# Altium schematic symbol library ARCOM_Modules.SchLib: 8 symbols
Pins are listed as number, name and electrical type; pins without a type are passive.

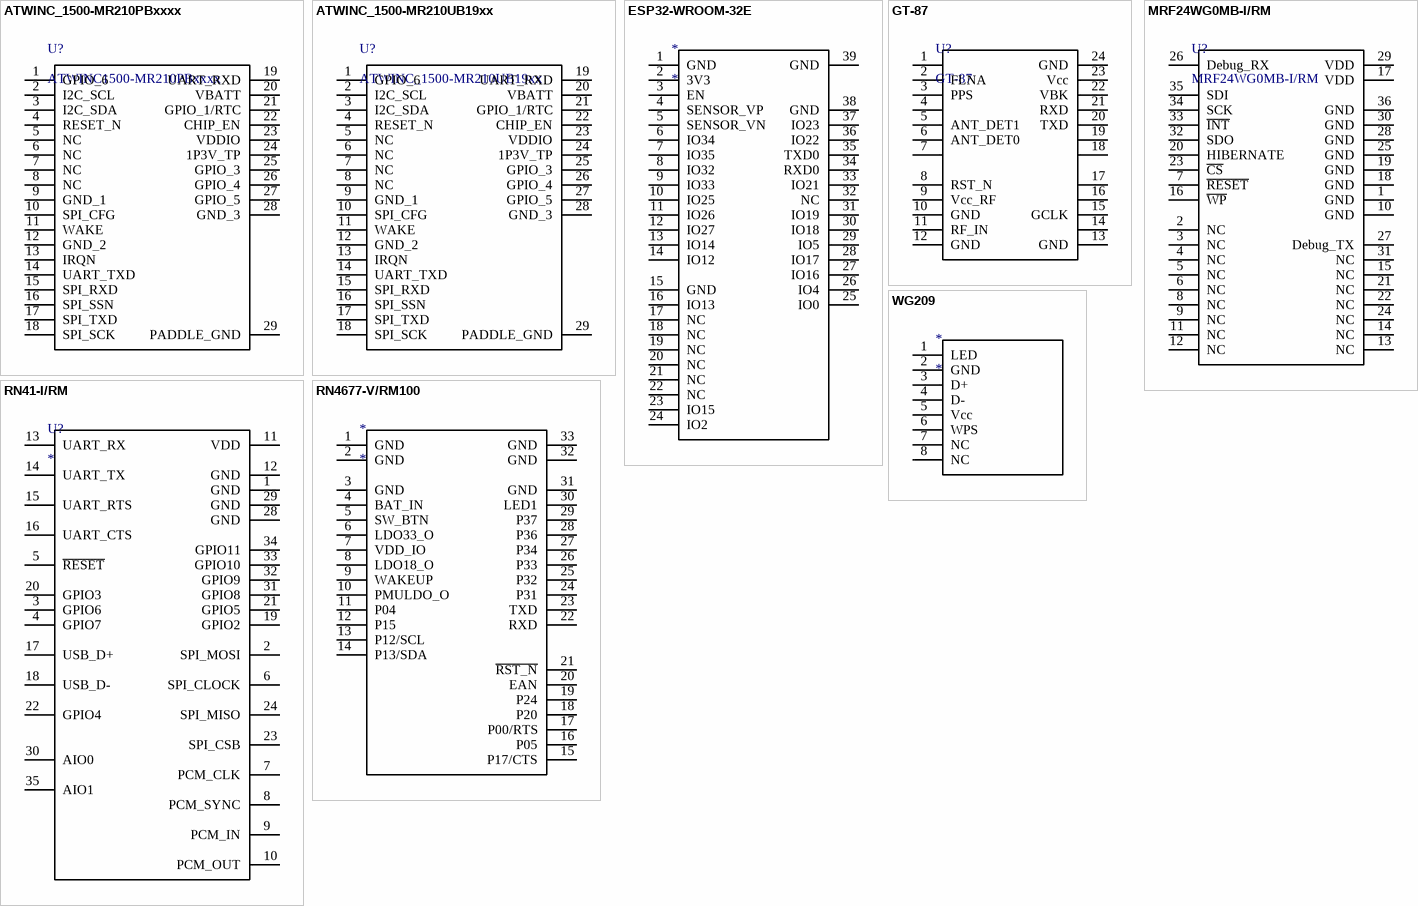
[diagram p0: symbols ATWINC_1500-MR210PBxxxx to WG209]

## ATWINC_1500-MR210PBxxxx
designator U?, comment ATWINC1500-MR210PBxxxx
IEEE 802.11 b/g/n SmartConnect IoT Module; Manufacturer: Microchip Inc.; ComponentLink1Description: Manufacturer; ComponentLink1URL: www.microchip.com; ComponentLink2Description: Datasheet; ComponentLink2URL: https://ru.mouser.com/datasheet/2/268/ATWINC15x0-MR210xB-IEEE-802.11-b-g-n-SmartConnect--1507285.pdf; Family: Modules; Manufacturer P/N: ATWINC1500-MR210PBxxxx; Part: ATWINC1500-MR210PBxxxx
footprint ATWINC1500-MR210PB
pins: 1 GPIO_6, 2 I2C_SCL, 3 I2C_SDA, 4 RESET_N, 5 NC, 6 NC, 7 NC, 8 NC, 9 GND_1, 10 SPI_CFG, 11 WAKE, 12 GND_2, 13 IRQN, 14 UART_TXD, 15 SPI_RXD, 16 SPI_SSN, 17 SPI_TXD, 18 SPI_SCK, 19 UART_RXD, 20 VBATT, 21 GPIO_1/RTC, 22 CHIP_EN, 23 VDDIO, 24 1P3V_TP, 25 GPIO_3, 26 GPIO_4, 27 GPIO_5, 28 GND_3, 29 PADDLE_GND

## ATWINC_1500-MR210UB19xx
designator U?
IEEE 802.11 b/g/n SmartConnect IoT Module; Manufacturer: Microchip Inc.; Manufacturer P/N: ATWINC_1500-MR210UB1961; ComponentLink1Description: Manufacturer; ComponentLink1URL: www.microchip.com; ComponentLink2Description: Datasheet; ComponentLink2URL: https://ru.mouser.com/datasheet/2/268/ATWINC15x0-MR210xB-IEEE-802.11-b-g-n-SmartConnect--1507285.pdf; Family: Modules; Part: ATWINC_1500-MR210UB19xx
footprint ATWINC1500-MR210PB
pins: 1 GPIO_6, 2 I2C_SCL, 3 I2C_SDA, 4 RESET_N, 5 NC, 6 NC, 7 NC, 8 NC, 9 GND_1, 10 SPI_CFG, 11 WAKE, 12 GND_2, 13 IRQN, 14 UART_TXD, 15 SPI_RXD, 16 SPI_SSN, 17 SPI_TXD, 18 SPI_SCK, 19 UART_RXD, 20 VBATT, 21 GPIO_1/RTC, 22 CHIP_EN, 23 VDDIO, 24 1P3V_TP, 25 GPIO_3, 26 GPIO_4, 27 GPIO_5, 28 GND_3, 29 PADDLE_GND

## ESP32-WROOM-32E
designator *
2.4 GHz WiFi + Bluetooth® + Bluetooth LE module; Manufacturer: Espressif Systems; Manufacturer p/n: ESP32-WROOM-32E; Family: Modules; Part: ESP32-WROOM-32E; ComponentLink1Description: Manufacturer; ComponentLink1URL: https://www.espressif.com/sites/default/
footprint ESP32-WROOM
pins: 1 GND, 2 3V3, 3 EN, 4 SENSOR_VP, 5 SENSOR_VN, 6 IO34, 7 IO35, 8 IO32, 9 IO33, 10 IO25, 11 IO26, 12 IO27, 13 IO14, 14 IO12, 15 GND, 16 IO13, 17 NC, 18 NC, 19 NC, 20 NC, 21 NC, 22 NC, 23 IO15, 24 IO2, 25 IO0, 26 IO4, 27 IO16, 28 IO17, 29 IO5, 30 IO18, 31 IO19, 32 NC, 33 IO21, 34 RXD0, 35 TXD0, 36 IO22, 37 IO23, 38 GND, 39 GND

## GT-87
designator U?
GNSS Receiver; Manufacturer: FURUNO; ComponentLink1Description: Manufacturer; ComponentLink1URL: http://www.furuno.com/en/products/gnss-module; ComponentLink2Description: No OnLine Datasheet; Manufacturer P/N: GT-87; Part: GT-87
footprint Furuno GT-87
pins: 1 Reserved, 2 FLNA, 3 PPS, 4 Reserved, 5 ANT_DET1, 6 ANT_DET0, 7 Reserved, 8 RST_N, 9 Vcc_RF, 10 GND, 11 RF_IN, 12 GND, 13 GND, 14 Reserved, 15 GCLK, 16 Reserved, 17 Reserved, 18 Reserved, 19 Reserved, 20 TXD, 21 RXD, 22 VBK, 23 Vcc, 24 GND

## MRF24WG0MB-I/RM
designator U?
2.4 GHz IEEE 802.11b/g; Manufacturer: Microchip Inc.; ComponentLink1Description: Manufacturer; ComponentLink1URL: http://www.microchip.com; ComponentLink2Description: Datasheet; ComponentLink2URL: http://ww1.microchip.com/downloads/en/DeviceDoc/70686B.pdf; Manufacturer P/N: MRF24WG0MB-I/RM; Part: MRF24WG0MB-I/RM; Family: Modules
footprint MRF24WG0MB-I/RM
pins: 1 GND, 2 NC, 3 NC, 4 NC, 5 NC, 6 NC, 7 ~{RESET}, 8 NC, 9 NC, 10 GND, 11 NC, 12 NC, 13 NC, 14 NC, 15 NC, 16 ~{WP}, 17 VDD, 18 GND, 19 GND, 20 HIBERNATE, 21 NC, 22 NC, 23 ~{CS}, 24 NC, 25 GND, 26 Debug_RX, 27 Debug_TX, 28 GND, 29 VDD, 30 GND, 31 NC, 32 SDO, 33 ~{INT}, 34 SCK, 35 SDI, 36 GND

## RN41-I/RM
designator U?
Microchip Bluetooth module
footprint RN41_with_Ant
pins: 1 GND, 2 SPI_MOSI, 3 GPIO6, 4 GPIO7, 5 ~{RESET}, 6 SPI_CLOCK, 7 PCM_CLK, 8 PCM_SYNC, 9 PCM_IN, 10 PCM_OUT, 11 VDD, 12 GND, 13 UART_RX, 14 UART_TX, 15 UART_RTS, 16 UART_CTS, 17 USB_D+, 18 USB_D-, 19 GPIO2, 20 GPIO3, 21 GPIO5, 22 GPIO4, 23 SPI_CSB, 24 SPI_MISO, 28 GND, 29 GND, 30 AIO0, 31 GPIO8, 32 GPIO9, 33 GPIO10, 34 GPIO11, 35 AIO1

## RN4677-V/RM100
designator *
footprint RN4677-V/RM100
pins: 1 GND, 2 GND, 3 GND, 4 BAT_IN, 5 SW_BTN, 6 LDO33_O, 7 VDD_IO, 8 LDO18_O, 9 WAKEUP, 10 PMULDO_O, 11 P04, 12 P15, 13 P12/SCL, 14 P13/SDA, 15 P17/CTS, 16 P05, 17 P00/RTS, 18 P20, 19 P24, 20 EAN, 21 ~{RST_N}, 22 RXD, 23 TXD, 24 P31, 25 P32, 26 P33, 27 P34, 28 P36, 29 P37, 30 LED1, 31 GND, 32 GND, 33 GND

## WG209
designator *
2.4 GHz WiFi + Bluetooth® + Bluetooth LE module; Manufacturer: Espressif Systems; Manufacturer p/n: ESP32-WROOM-32E; Family: Modules; Part: ESP32-WROOM-32E; ComponentLink1Description: Manufacturer; ComponentLink1URL: https://www.espressif.com/sites/default/
footprint WG209
pins: 1 LED, 2 GND, 3 D+, 4 D-, 5 Vcc, 6 WPS, 7 NC, 8 NC